# Altium schematic symbol library UDZVTE-174.7B.SchLib: 1 symbol
Pins are listed as number, name and electrical type; pins without a type are passive.

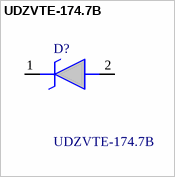
[diagram p0: symbol UDZVTE-174.7B]

## UDZVTE-174.7B
designator D?
ROHM UDZVTE-174.7B Zener Diode, 4.7V 200 mW SMT 2-Pin SOD-323; Manufacturer_Name: ROHM Semiconductor; Geometry.Height: 0mm; Mouser Part Number: 755-UDZVTE-174.7B; Mouser Price/Stock: https://www.mouser.co.uk/ProductDetail/ROHM-Semiconductor/UDZVTE-174.7B?qs=QcFhgjUTvvq4dv21cmqlIg%3D%3D; Manufacturer_Part_Number: UDZVTE-174.7B; Datasheet Link: https://datasheet.datasheetarchive.com/originals/distributors/Datasheets_SAMA/fc0fdee245360d70a490ea42679dfa63.pdf
footprint UDZVTE1722B
pins: 1 K, 2 A